# Altium integrated library AT-1224-TWT-5V-2-R.IntLib: 1 symbol
Pins are listed as number, name and electrical type; pins without a type are passive.

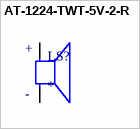
[diagram p0: symbol AT-1224-TWT-5V-2-R]

## AT-1224-TWT-5V-2-R
designator LS?
AUDIO TRANSDUCER 12 VP-P 85 DB 2400 HZ; MP: AT-1224-TWT-5V-2-R; Package: None; Price: None; Value: *; Availability: Unavailable
footprint XDCR_AT-1224-TWT-5V-2-R
pins: N, P
text: +; -